# EAGLE library part SWITCH_SS22SDH2 (library gc1_parts)
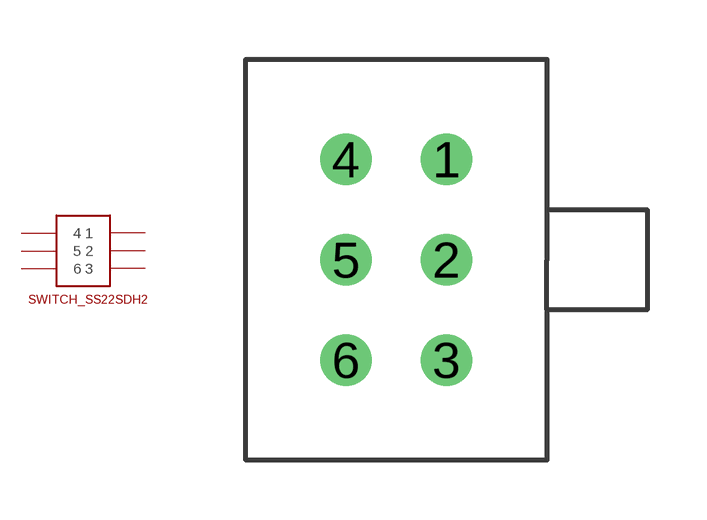
[diagram p3: symbol with the pads of SWITCH_SS22SDH2; footprint SWITCH_SS22SDH2]

Designator prefix -

## SWITCH_SS22SDH2  [SWITCH_SS22SDH2]
1  1
2  2
3  3
4  4
5  5
6  6

## Footprint SWITCH_SS22SDH2 (pad centres in mm)
drill 0.8: 1 5.08,-2.54; 2 5.08,-5.08; 3 5.08,-7.62; 4 2.54,-2.54; 5 2.54,-5.08; 6 2.54,-7.62